# Altium integrated library DSUB.IntLib: 5 symbols
Pins are listed as number, name and electrical type; pins without a type are passive.

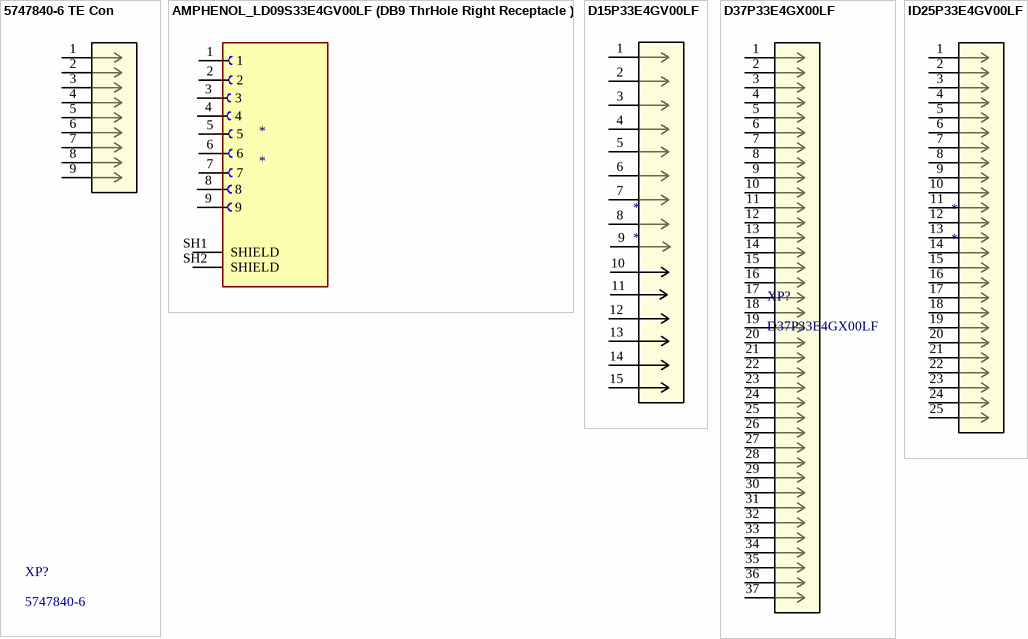
[diagram p0: symbols 5747840-6 TE Con to ID25P33E4GV00LF]

## 5747840-6 TE Con
designator XP?, comment 5747840-6
footprint 5747840-6 TE Con
pins: 1, 2, 3, 4, 5, 6, 7, 8, 9

## AMPHENOL_LD09S33E4GV00LF (DB9 ThrHole Right Receptacle )
designator *
footprint AMPHENOL_LD09S33E4GV00LF (9pin receptacle)
pins: 1, 2, 3, 4, 5, 6, 7, 8, 9, SH1 SHIELD, SH2 SHIELD

## D15P33E4GV00LF
designator *
footprint D15P33E4GV00LF (Amphenol)
pins: 1, 2, 3, 4, 5, 6, 7, 8, 9, 10, 11, 12, 13, 14, 15

## D37P33E4GX00LF
designator XP?
footprint D37P33E4GX00LF
pins: 1, 2, 3, 4, 5, 6, 7, 8, 9, 10, 11, 12, 13, 14, 15, 16, 17, 18, 19, 20, 21, 22, 23, 24, 25, 26, 27, 28, 29, 30, 31, 32, 33, 34, 35, 36, 37

## ID25P33E4GV00LF
designator *
footprint ID25P33E4GV00LF
pins: 1, 2, 3, 4, 5, 6, 7, 8, 9, 10, 11, 12, 13, 14, 15, 16, 17, 18, 19, 20, 21, 22, 23, 24, 25